# EAGLE library part DIL8 (library ic-package)
Dual In Line / Socket
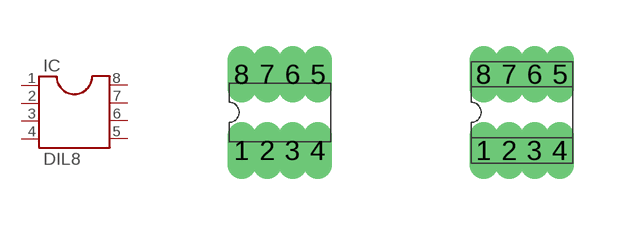
[diagram p1: symbol with the pads of DIL08; footprints DIL08, SOCKET-08]

Designator prefix IC

## DIL8  [DIL08]
1  1  pas
2  2  pas
3  3  pas
4  4  pas
5  5  pas
6  6  pas
7  7  pas
8  8  pas

## DIL8S  [SOCKET-08]
Pads as for DIL08

## Footprint DIL08 (pad centres in mm)
Dual In Line Package
drill 0.203 long: 1 -0.953,-0.953; 2 -0.318,-0.953; 3 0.318,-0.953; 4 0.953,-0.953; 5 0.953,0.953; 6 0.318,0.953; 7 -0.318,0.953; 8 -0.953,0.953

## Footprint SOCKET-08 (pad centres in mm)
Dual In Line Socket
drill 0.203 long: 1 -0.953,-0.953; 2 -0.318,-0.953; 3 0.318,-0.953; 4 0.953,-0.953; 5 0.953,0.953; 6 0.318,0.953; 7 -0.318,0.953; 8 -0.953,0.953